# Altium integrated library Microchip Mixed Signal.IntLib: 1399 symbols (part 13 of 39)
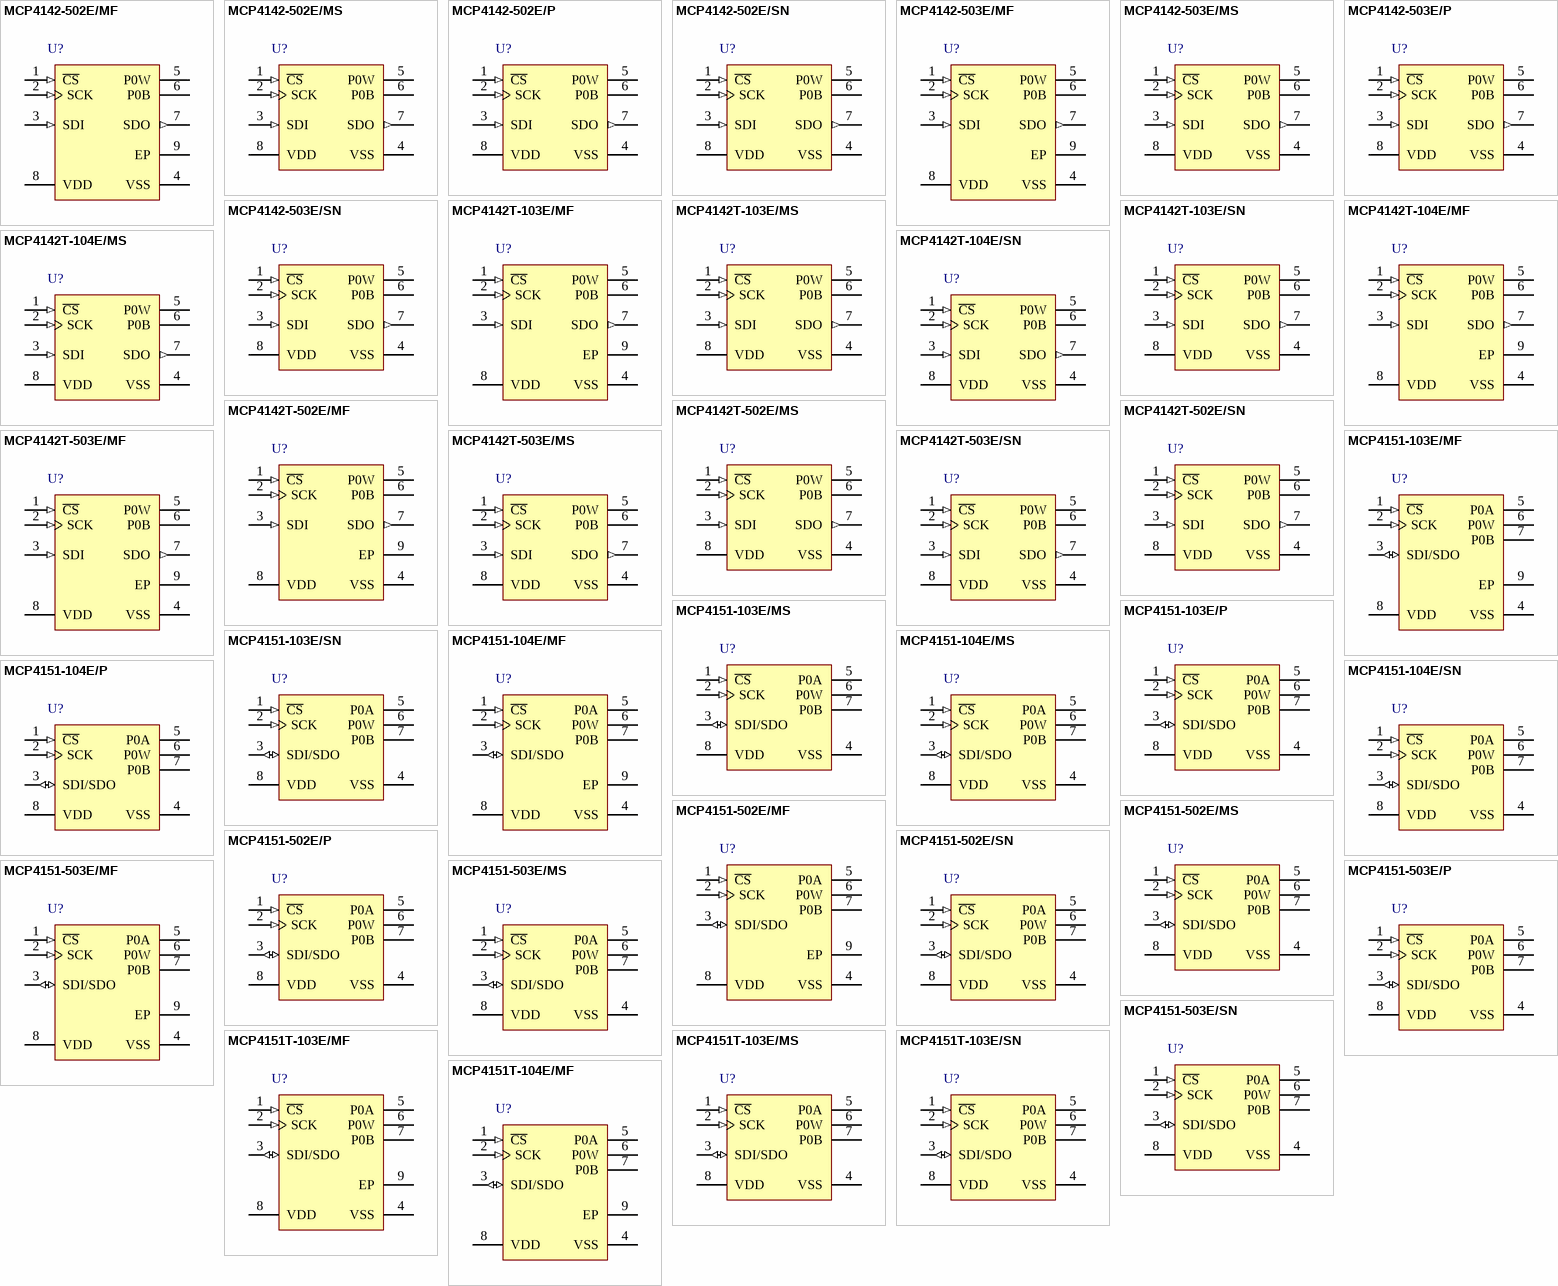
[diagram p56: symbols MCP4142-502E/MF to MCP4151T-104E/MF]

## MCP4142-503E/MS
designator U?
7/8-Bit Single/Dual SPI Digital POT with Non-Volatile Memory, 8-Pin MSOP, Extended Temperature; Manufacturer: Microchip; PartNumber: MCP4142-503E/MS; DatasheetVersion: revB, Dec-2008; PackageVersion: revBB, Aug-2009; PackageReference: MSOP-MS8; PackageDescription: 8-Lead Plastic Micro Small Outline Package (MS) [MSOP]; Supplier 1: Digi-Key; Supplier Part Number 1: MCP4142-503E/MS-ND; Supplier 2: Mouser; Supplier Part Number 2: 579-MCP4142-503E/MS; Mounting Technology: Surface Mount; ComponentLink1Description: Manufacturer URL; ComponentLink1URL: http://www.microchip.com/; ComponentLink2Description: Datasheet; ComponentLink2URL: http://ww1.microchip.com/downloads/en/DeviceDoc/22059b.pdf; ComponentLink3Description: Package Specification; ComponentLink3URL: http://www.microchip.com/stellent/groups/techpub_sg/documents/packagingspec/en012702.pdf
footprint MSOP-MS8_N (TSOP, 8-Leads, Body 3x3mm, Pitch 0.65mm, IPC Medium Density)
footprint MSOP-MS8_L (TSOP, 8-Leads, Body 3x3mm, Pitch 0.65mm, IPC High Density)
footprint MSOP-MS8_M (TSOP, 8-Leads, Body 3x3mm, Pitch 0.65mm, IPC Low Density)
pins: 1 ~{CS} (in), 2 SCK (in), 3 SDI (in), 4 VSS (power), 5 P0W, 6 P0B, 7 SDO (out), 8 VDD (power)

## MCP4142-503E/P
designator U?
7/8-Bit Single/Dual SPI Digital POT with Non-Volatile Memory, 8-Pin PDIP, Extended Temperature; Manufacturer: Microchip; PartNumber: MCP4142-503E/P; DatasheetVersion: revB, Dec-2008; PackageVersion: revBB, Aug-2009; PackageReference: PDIP300-P8; PackageDescription: 8-Lead Plastic Dual In-Line (P) - 300 mil Body [PDIP]; Supplier 1: Digi-Key; Supplier Part Number 1: MCP4142-503E/P-ND; Supplier 2: Farnell; Supplier Part Number 2: 1840821; Supplier 3: Newark; Supplier Part Number 3: 77M2666; Supplier 4: Mouser; Supplier Part Number 4: 579-MCP4142-503E/P; Mounting Technology: Through Hole; Code_JEDEC: MS-001; ComponentLink1Description: Manufacturer URL; ComponentLink1URL: http://www.microchip.com/; ComponentLink2Description: Datasheet; ComponentLink2URL: http://ww1.microchip.com/downloads/en/DeviceDoc/22059b.pdf; ComponentLink3Description: Package Specification; ComponentLink3URL: http://www.microchip.com/stellent/groups/techpub_sg/documents/packagingspec/en012702.pdf
footprint PDIP300-P8 (DIP, 8-Leads, Row Spacing 7.62mm, Pitch 2.54mm, Body 9.5x6.6mm)
pins: 1 ~{CS} (in), 2 SCK (in), 3 SDI (in), 4 VSS (power), 5 P0W, 6 P0B, 7 SDO (out), 8 VDD (power)

## MCP4142-503E/SN
designator U?
7/8-Bit Single/Dual SPI Digital POT with Non-Volatile Memory, 8-Pin SOIC 150mil, Extended Temperature; Manufacturer: Microchip; PartNumber: MCP4142-503E/SN; DatasheetVersion: revB, Dec-2008; PackageVersion: revBB, Aug-2009; PackageReference: SOIC-SN8; PackageDescription: 8-Lead Plastic Small Outline (SN) - Narrow, 3.90mm Body [SOIC]; Supplier 1: Digi-Key; Supplier Part Number 1: MCP4142-503E/SN-ND; Supplier 2: Farnell; Supplier Part Number 2: 1852030; Supplier 3: Newark; Supplier Part Number 3: 77M2667; Supplier 4: Mouser; Supplier Part Number 4: 579-MCP4142-503E/SN; Mounting Technology: Surface Mount; Code_JEDEC: MS-012; Code_IPC: SOIC127P600-8; ComponentLink1Description: Manufacturer URL; ComponentLink1URL: http://www.microchip.com/; ComponentLink2Description: Datasheet; ComponentLink2URL: http://ww1.microchip.com/downloads/en/DeviceDoc/22059b.pdf; ComponentLink3Description: Package Specification; ComponentLink3URL: http://www.microchip.com/stellent/groups/techpub_sg/documents/packagingspec/en012702.pdf
footprint SOIC-SN8_N (SOIC, 8-Leads, Body 4.9x3.8mm, Pitch 1.27mm, IPC Medium Density)
footprint SOIC-SN8_L (SOIC, 8-Leads, Body 4.9x3.8mm, Pitch 1.27mm, IPC High Density)
footprint SOIC-SN8_M (SOIC, 8-Leads, Body 4.9x3.8mm, Pitch 1.27mm, IPC Low Density)
pins: 1 ~{CS} (in), 2 SCK (in), 3 SDI (in), 4 VSS (power), 5 P0W, 6 P0B, 7 SDO (out), 8 VDD (power)

## MCP4142T-103E/MF
designator U?
7/8-Bit Single/Dual SPI Digital POT with Non-Volatile Memory, 8-Pin DFN, Extended Temperature, Tape and Reel; Manufacturer: Microchip; PartNumber: MCP4142T-103E/MF; DatasheetVersion: revB, Dec-2008; PackageVersion: revBB, Aug-2009; PackageReference: DFN-MF8; PackageDescription: 8-Lead Plastic Dual Flat, No Lead Package (MF) - 3x3x0.9mm Body [DFN]; Supplier 1: Digi-Key; Supplier Part Number 1: MCP4142T-103E/MF-ND; Supplier 2: Mouser; Supplier Part Number 2: 579-MCP4142T-103E/MF; Mounting Technology: Surface Mount; ComponentLink1Description: Manufacturer URL; ComponentLink1URL: http://www.microchip.com/; ComponentLink2Description: Datasheet; ComponentLink2URL: http://ww1.microchip.com/downloads/en/DeviceDoc/22059b.pdf; ComponentLink3Description: Package Specification; ComponentLink3URL: http://www.microchip.com/stellent/groups/techpub_sg/documents/packagingspec/en012702.pdf
footprint DFN-MF8 (SON, 8-Leads, Body 3x3mm, Pitch 0.65mm, Microchip Recommended)
pins: 1 ~{CS} (in), 2 SCK (in), 3 SDI (in), 4 VSS (power), 5 P0W, 6 P0B, 7 SDO (out), 8 VDD (power), 9 EP

## MCP4142T-103E/MS
designator U?
7/8-Bit Single/Dual SPI Digital POT with Non-Volatile Memory, 8-Pin MSOP, Extended Temperature, Tape and Reel; Manufacturer: Microchip; PartNumber: MCP4142T-103E/MS; DatasheetVersion: revB, Dec-2008; PackageVersion: revBB, Aug-2009; PackageReference: MSOP-MS8; PackageDescription: 8-Lead Plastic Micro Small Outline Package (MS) [MSOP]; Supplier 1: Digi-Key; Supplier Part Number 1: MCP4142T-103E/MS-ND; Supplier 2: Mouser; Supplier Part Number 2: 579-MCP4142T-103E/MS; Mounting Technology: Surface Mount; ComponentLink1Description: Manufacturer URL; ComponentLink1URL: http://www.microchip.com/; ComponentLink2Description: Datasheet; ComponentLink2URL: http://ww1.microchip.com/downloads/en/DeviceDoc/22059b.pdf; ComponentLink3Description: Package Specification; ComponentLink3URL: http://www.microchip.com/stellent/groups/techpub_sg/documents/packagingspec/en012702.pdf
footprint MSOP-MS8_N (TSOP, 8-Leads, Body 3x3mm, Pitch 0.65mm, IPC Medium Density)
footprint MSOP-MS8_L (TSOP, 8-Leads, Body 3x3mm, Pitch 0.65mm, IPC High Density)
footprint MSOP-MS8_M (TSOP, 8-Leads, Body 3x3mm, Pitch 0.65mm, IPC Low Density)
pins: 1 ~{CS} (in), 2 SCK (in), 3 SDI (in), 4 VSS (power), 5 P0W, 6 P0B, 7 SDO (out), 8 VDD (power)

## MCP4142T-103E/SN
designator U?
7/8-Bit Single/Dual SPI Digital POT with Non-Volatile Memory, 8-Pin SOIC 150mil, Extended Temperature, Tape and Reel; Manufacturer: Microchip; PartNumber: MCP4142T-103E/SN; DatasheetVersion: revB, Dec-2008; PackageVersion: revBB, Aug-2009; PackageReference: SOIC-SN8; PackageDescription: 8-Lead Plastic Small Outline (SN) - Narrow, 3.90mm Body [SOIC]; Supplier 1: Digi-Key; Supplier Part Number 1: MCP4142T-103E/SN-ND; Supplier 2: Mouser; Supplier Part Number 2: 579-MCP4142T-103E/SN; Mounting Technology: Surface Mount; Code_JEDEC: MS-012; Code_IPC: SOIC127P600-8; ComponentLink1Description: Manufacturer URL; ComponentLink1URL: http://www.microchip.com/; ComponentLink2Description: Datasheet; ComponentLink2URL: http://ww1.microchip.com/downloads/en/DeviceDoc/22059b.pdf; ComponentLink3Description: Package Specification; ComponentLink3URL: http://www.microchip.com/stellent/groups/techpub_sg/documents/packagingspec/en012702.pdf
footprint SOIC-SN8_N (SOIC, 8-Leads, Body 4.9x3.8mm, Pitch 1.27mm, IPC Medium Density)
footprint SOIC-SN8_L (SOIC, 8-Leads, Body 4.9x3.8mm, Pitch 1.27mm, IPC High Density)
footprint SOIC-SN8_M (SOIC, 8-Leads, Body 4.9x3.8mm, Pitch 1.27mm, IPC Low Density)
pins: 1 ~{CS} (in), 2 SCK (in), 3 SDI (in), 4 VSS (power), 5 P0W, 6 P0B, 7 SDO (out), 8 VDD (power)

## MCP4142T-104E/MF
designator U?
7/8-Bit Single/Dual SPI Digital POT with Non-Volatile Memory, 8-Pin DFN, Extended Temperature, Tape and Reel; Manufacturer: Microchip; PartNumber: MCP4142T-104E/MF; DatasheetVersion: revB, Dec-2008; PackageVersion: revBB, Aug-2009; PackageReference: DFN-MF8; PackageDescription: 8-Lead Plastic Dual Flat, No Lead Package (MF) - 3x3x0.9mm Body [DFN]; Supplier 1: Digi-Key; Supplier Part Number 1: MCP4142T-104E/MF-ND; Supplier 2: Mouser; Supplier Part Number 2: 579-MCP4142T-104E/MF; Mounting Technology: Surface Mount; ComponentLink1Description: Manufacturer URL; ComponentLink1URL: http://www.microchip.com/; ComponentLink2Description: Datasheet; ComponentLink2URL: http://ww1.microchip.com/downloads/en/DeviceDoc/22059b.pdf; ComponentLink3Description: Package Specification; ComponentLink3URL: http://www.microchip.com/stellent/groups/techpub_sg/documents/packagingspec/en012702.pdf
footprint DFN-MF8 (SON, 8-Leads, Body 3x3mm, Pitch 0.65mm, Microchip Recommended)
pins: 1 ~{CS} (in), 2 SCK (in), 3 SDI (in), 4 VSS (power), 5 P0W, 6 P0B, 7 SDO (out), 8 VDD (power), 9 EP

## MCP4142T-104E/MS
designator U?
7/8-Bit Single/Dual SPI Digital POT with Non-Volatile Memory, 8-Pin MSOP, Extended Temperature, Tape and Reel; Manufacturer: Microchip; PartNumber: MCP4142T-104E/MS; DatasheetVersion: revB, Dec-2008; PackageVersion: revBB, Aug-2009; PackageReference: MSOP-MS8; PackageDescription: 8-Lead Plastic Micro Small Outline Package (MS) [MSOP]; Supplier 1: Digi-Key; Supplier Part Number 1: MCP4142T-104E/MS-ND; Supplier 2: Mouser; Supplier Part Number 2: 579-MCP4142T-104E/MS; Mounting Technology: Surface Mount; ComponentLink1Description: Manufacturer URL; ComponentLink1URL: http://www.microchip.com/; ComponentLink2Description: Datasheet; ComponentLink2URL: http://ww1.microchip.com/downloads/en/DeviceDoc/22059b.pdf; ComponentLink3Description: Package Specification; ComponentLink3URL: http://www.microchip.com/stellent/groups/techpub_sg/documents/packagingspec/en012702.pdf
footprint MSOP-MS8_N (TSOP, 8-Leads, Body 3x3mm, Pitch 0.65mm, IPC Medium Density)
footprint MSOP-MS8_L (TSOP, 8-Leads, Body 3x3mm, Pitch 0.65mm, IPC High Density)
footprint MSOP-MS8_M (TSOP, 8-Leads, Body 3x3mm, Pitch 0.65mm, IPC Low Density)
pins: 1 ~{CS} (in), 2 SCK (in), 3 SDI (in), 4 VSS (power), 5 P0W, 6 P0B, 7 SDO (out), 8 VDD (power)

## MCP4142T-104E/SN
designator U?
7/8-Bit Single/Dual SPI Digital POT with Non-Volatile Memory, 8-Pin SOIC 150mil, Extended Temperature, Tape and Reel; Manufacturer: Microchip; PartNumber: MCP4142T-104E/SN; DatasheetVersion: revB, Dec-2008; PackageVersion: revBB, Aug-2009; PackageReference: SOIC-SN8; PackageDescription: 8-Lead Plastic Small Outline (SN) - Narrow, 3.90mm Body [SOIC]; Supplier 1: Digi-Key; Supplier Part Number 1: MCP4142T-104E/SN-ND; Supplier 2: Mouser; Supplier Part Number 2: 579-MCP4142T-104E/SN; Mounting Technology: Surface Mount; Code_JEDEC: MS-012; Code_IPC: SOIC127P600-8; ComponentLink1Description: Manufacturer URL; ComponentLink1URL: http://www.microchip.com/; ComponentLink2Description: Datasheet; ComponentLink2URL: http://ww1.microchip.com/downloads/en/DeviceDoc/22059b.pdf; ComponentLink3Description: Package Specification; ComponentLink3URL: http://www.microchip.com/stellent/groups/techpub_sg/documents/packagingspec/en012702.pdf
footprint SOIC-SN8_N (SOIC, 8-Leads, Body 4.9x3.8mm, Pitch 1.27mm, IPC Medium Density)
footprint SOIC-SN8_L (SOIC, 8-Leads, Body 4.9x3.8mm, Pitch 1.27mm, IPC High Density)
footprint SOIC-SN8_M (SOIC, 8-Leads, Body 4.9x3.8mm, Pitch 1.27mm, IPC Low Density)
pins: 1 ~{CS} (in), 2 SCK (in), 3 SDI (in), 4 VSS (power), 5 P0W, 6 P0B, 7 SDO (out), 8 VDD (power)

## MCP4142T-502E/MF
designator U?
7/8-Bit Single/Dual SPI Digital POT with Non-Volatile Memory, 8-Pin DFN, Extended Temperature, Tape and Reel; Manufacturer: Microchip; PartNumber: MCP4142T-502E/MF; DatasheetVersion: revB, Dec-2008; PackageVersion: revBB, Aug-2009; PackageReference: DFN-MF8; PackageDescription: 8-Lead Plastic Dual Flat, No Lead Package (MF) - 3x3x0.9mm Body [DFN]; Supplier 1: Digi-Key; Supplier Part Number 1: MCP4142T-502E/MF-ND; Supplier 2: Mouser; Supplier Part Number 2: 579-MCP4142T-502E/MF; Mounting Technology: Surface Mount; ComponentLink1Description: Manufacturer URL; ComponentLink1URL: http://www.microchip.com/; ComponentLink2Description: Datasheet; ComponentLink2URL: http://ww1.microchip.com/downloads/en/DeviceDoc/22059b.pdf; ComponentLink3Description: Package Specification; ComponentLink3URL: http://www.microchip.com/stellent/groups/techpub_sg/documents/packagingspec/en012702.pdf
footprint DFN-MF8 (SON, 8-Leads, Body 3x3mm, Pitch 0.65mm, Microchip Recommended)
pins: 1 ~{CS} (in), 2 SCK (in), 3 SDI (in), 4 VSS (power), 5 P0W, 6 P0B, 7 SDO (out), 8 VDD (power), 9 EP

## MCP4142T-502E/MS
designator U?
7/8-Bit Single/Dual SPI Digital POT with Non-Volatile Memory, 8-Pin MSOP, Extended Temperature, Tape and Reel; Manufacturer: Microchip; PartNumber: MCP4142T-502E/MS; DatasheetVersion: revB, Dec-2008; PackageVersion: revBB, Aug-2009; PackageReference: MSOP-MS8; PackageDescription: 8-Lead Plastic Micro Small Outline Package (MS) [MSOP]; Supplier 1: Digi-Key; Supplier Part Number 1: MCP4142T-502E/MS-ND; Supplier 2: Mouser; Supplier Part Number 2: 579-MCP4142T-502E/MS; Mounting Technology: Surface Mount; ComponentLink1Description: Manufacturer URL; ComponentLink1URL: http://www.microchip.com/; ComponentLink2Description: Datasheet; ComponentLink2URL: http://ww1.microchip.com/downloads/en/DeviceDoc/22059b.pdf; ComponentLink3Description: Package Specification; ComponentLink3URL: http://www.microchip.com/stellent/groups/techpub_sg/documents/packagingspec/en012702.pdf
footprint MSOP-MS8_N (TSOP, 8-Leads, Body 3x3mm, Pitch 0.65mm, IPC Medium Density)
footprint MSOP-MS8_L (TSOP, 8-Leads, Body 3x3mm, Pitch 0.65mm, IPC High Density)
footprint MSOP-MS8_M (TSOP, 8-Leads, Body 3x3mm, Pitch 0.65mm, IPC Low Density)
pins: 1 ~{CS} (in), 2 SCK (in), 3 SDI (in), 4 VSS (power), 5 P0W, 6 P0B, 7 SDO (out), 8 VDD (power)

## MCP4142T-502E/SN
designator U?
7/8-Bit Single/Dual SPI Digital POT with Non-Volatile Memory, 8-Pin SOIC 150mil, Extended Temperature, Tape and Reel; Manufacturer: Microchip; PartNumber: MCP4142T-502E/SN; DatasheetVersion: revB, Dec-2008; PackageVersion: revBB, Aug-2009; PackageReference: SOIC-SN8; PackageDescription: 8-Lead Plastic Small Outline (SN) - Narrow, 3.90mm Body [SOIC]; Supplier 1: Digi-Key; Supplier Part Number 1: MCP4142T-502E/SN-ND; Supplier 2: Mouser; Supplier Part Number 2: 579-MCP4142T-502E/SN; Mounting Technology: Surface Mount; Code_JEDEC: MS-012; Code_IPC: SOIC127P600-8; ComponentLink1Description: Manufacturer URL; ComponentLink1URL: http://www.microchip.com/; ComponentLink2Description: Datasheet; ComponentLink2URL: http://ww1.microchip.com/downloads/en/DeviceDoc/22059b.pdf; ComponentLink3Description: Package Specification; ComponentLink3URL: http://www.microchip.com/stellent/groups/techpub_sg/documents/packagingspec/en012702.pdf
footprint SOIC-SN8_N (SOIC, 8-Leads, Body 4.9x3.8mm, Pitch 1.27mm, IPC Medium Density)
footprint SOIC-SN8_L (SOIC, 8-Leads, Body 4.9x3.8mm, Pitch 1.27mm, IPC High Density)
footprint SOIC-SN8_M (SOIC, 8-Leads, Body 4.9x3.8mm, Pitch 1.27mm, IPC Low Density)
pins: 1 ~{CS} (in), 2 SCK (in), 3 SDI (in), 4 VSS (power), 5 P0W, 6 P0B, 7 SDO (out), 8 VDD (power)

## MCP4142T-503E/MF
designator U?
7/8-Bit Single/Dual SPI Digital POT with Non-Volatile Memory, 8-Pin DFN, Extended Temperature, Tape and Reel; Manufacturer: Microchip; PartNumber: MCP4142T-503E/MF; DatasheetVersion: revB, Dec-2008; PackageVersion: revBB, Aug-2009; PackageReference: DFN-MF8; PackageDescription: 8-Lead Plastic Dual Flat, No Lead Package (MF) - 3x3x0.9mm Body [DFN]; Supplier 1: Digi-Key; Supplier Part Number 1: MCP4142T-503E/MF-ND; Supplier 2: Mouser; Supplier Part Number 2: 579-MCP4142T-503E/MF; Mounting Technology: Surface Mount; ComponentLink1Description: Manufacturer URL; ComponentLink1URL: http://www.microchip.com/; ComponentLink2Description: Datasheet; ComponentLink2URL: http://ww1.microchip.com/downloads/en/DeviceDoc/22059b.pdf; ComponentLink3Description: Package Specification; ComponentLink3URL: http://www.microchip.com/stellent/groups/techpub_sg/documents/packagingspec/en012702.pdf
footprint DFN-MF8 (SON, 8-Leads, Body 3x3mm, Pitch 0.65mm, Microchip Recommended)
pins: 1 ~{CS} (in), 2 SCK (in), 3 SDI (in), 4 VSS (power), 5 P0W, 6 P0B, 7 SDO (out), 8 VDD (power), 9 EP

## MCP4142T-503E/MS
designator U?
7/8-Bit Single/Dual SPI Digital POT with Non-Volatile Memory, 8-Pin MSOP, Extended Temperature, Tape and Reel; Manufacturer: Microchip; PartNumber: MCP4142T-503E/MS; DatasheetVersion: revB, Dec-2008; PackageVersion: revBB, Aug-2009; PackageReference: MSOP-MS8; PackageDescription: 8-Lead Plastic Micro Small Outline Package (MS) [MSOP]; Supplier 1: Digi-Key; Supplier Part Number 1: MCP4142T-503E/MS-ND; Supplier 2: Mouser; Supplier Part Number 2: 579-MCP4142T-503E/MS; Mounting Technology: Surface Mount; ComponentLink1Description: Manufacturer URL; ComponentLink1URL: http://www.microchip.com/; ComponentLink2Description: Datasheet; ComponentLink2URL: http://ww1.microchip.com/downloads/en/DeviceDoc/22059b.pdf; ComponentLink3Description: Package Specification; ComponentLink3URL: http://www.microchip.com/stellent/groups/techpub_sg/documents/packagingspec/en012702.pdf
footprint MSOP-MS8_N (TSOP, 8-Leads, Body 3x3mm, Pitch 0.65mm, IPC Medium Density)
footprint MSOP-MS8_L (TSOP, 8-Leads, Body 3x3mm, Pitch 0.65mm, IPC High Density)
footprint MSOP-MS8_M (TSOP, 8-Leads, Body 3x3mm, Pitch 0.65mm, IPC Low Density)
pins: 1 ~{CS} (in), 2 SCK (in), 3 SDI (in), 4 VSS (power), 5 P0W, 6 P0B, 7 SDO (out), 8 VDD (power)

## MCP4142T-503E/SN
designator U?
7/8-Bit Single/Dual SPI Digital POT with Non-Volatile Memory, 8-Pin SOIC 150mil, Extended Temperature, Tape and Reel; Manufacturer: Microchip; PartNumber: MCP4142T-503E/SN; DatasheetVersion: revB, Dec-2008; PackageVersion: revBB, Aug-2009; PackageReference: SOIC-SN8; PackageDescription: 8-Lead Plastic Small Outline (SN) - Narrow, 3.90mm Body [SOIC]; Supplier 1: Digi-Key; Supplier Part Number 1: MCP4142T-503E/SN-ND; Supplier 2: Mouser; Supplier Part Number 2: 579-MCP4142T-503E/SN; Mounting Technology: Surface Mount; Code_JEDEC: MS-012; Code_IPC: SOIC127P600-8; ComponentLink1Description: Manufacturer URL; ComponentLink1URL: http://www.microchip.com/; ComponentLink2Description: Datasheet; ComponentLink2URL: http://ww1.microchip.com/downloads/en/DeviceDoc/22059b.pdf; ComponentLink3Description: Package Specification; ComponentLink3URL: http://www.microchip.com/stellent/groups/techpub_sg/documents/packagingspec/en012702.pdf
footprint SOIC-SN8_N (SOIC, 8-Leads, Body 4.9x3.8mm, Pitch 1.27mm, IPC Medium Density)
footprint SOIC-SN8_L (SOIC, 8-Leads, Body 4.9x3.8mm, Pitch 1.27mm, IPC High Density)
footprint SOIC-SN8_M (SOIC, 8-Leads, Body 4.9x3.8mm, Pitch 1.27mm, IPC Low Density)
pins: 1 ~{CS} (in), 2 SCK (in), 3 SDI (in), 4 VSS (power), 5 P0W, 6 P0B, 7 SDO (out), 8 VDD (power)

## MCP4151-103E/MF
designator U?
7/8-Bit Single/Dual SPI Digital POT with Volatile Memory, 8-Pin DFN, Extended Temperature; Manufacturer: Microchip; PartNumber: MCP4151-103E/MF; DatasheetVersion: revB, Dec-2008; PackageVersion: revBB, Aug-2009; PackageReference: DFN-MF8; PackageDescription: 8-Lead Plastic Dual Flat, No Lead Package (MF) - 3x3x0.9mm Body [DFN]; Supplier 1: Digi-Key; Supplier Part Number 1: MCP4151-103E/MF-ND; Supplier 2: Newark; Supplier Part Number 2: 77M2680; Supplier 3: Mouser; Supplier Part Number 3: 579-MCP4151-103E/MF; Mounting Technology: Surface Mount; ComponentLink1Description: Manufacturer URL; ComponentLink1URL: http://www.microchip.com/; ComponentLink2Description: Datasheet; ComponentLink2URL: http://ww1.microchip.com/downloads/en/DeviceDoc/22060b.pdf; ComponentLink3Description: Package Specification; ComponentLink3URL: http://www.microchip.com/stellent/groups/techpub_sg/documents/packagingspec/en012702.pdf
footprint DFN-MF8 (SON, 8-Leads, Body 3x3mm, Pitch 0.65mm, Microchip Recommended)
pins: 1 ~{CS} (in), 2 SCK (in), 3 SDI/SDO (io), 4 VSS (power), 5 P0A, 6 P0W, 7 P0B, 8 VDD (power), 9 EP

## MCP4151-103E/MS
designator U?
7/8-Bit Single/Dual SPI Digital POT with Volatile Memory, 8-Pin MSOP, Extended Temperature; Manufacturer: Microchip; PartNumber: MCP4151-103E/MS; DatasheetVersion: revB, Dec-2008; PackageVersion: revBB, Aug-2009; PackageReference: MSOP-MS8; PackageDescription: 8-Lead Plastic Micro Small Outline Package (MS) [MSOP]; Supplier 1: Digi-Key; Supplier Part Number 1: MCP4151-103E/MS-ND; Supplier 2: Newark; Supplier Part Number 2: 77M2681; Supplier 3: Mouser; Supplier Part Number 3: 579-MCP4151-103E/MS; Mounting Technology: Surface Mount; ComponentLink1Description: Manufacturer URL; ComponentLink1URL: http://www.microchip.com/; ComponentLink2Description: Datasheet; ComponentLink2URL: http://ww1.microchip.com/downloads/en/DeviceDoc/22060b.pdf; ComponentLink3Description: Package Specification; ComponentLink3URL: http://www.microchip.com/stellent/groups/techpub_sg/documents/packagingspec/en012702.pdf
footprint MSOP-MS8_N (TSOP, 8-Leads, Body 3x3mm, Pitch 0.65mm, IPC Medium Density)
footprint MSOP-MS8_L (TSOP, 8-Leads, Body 3x3mm, Pitch 0.65mm, IPC High Density)
footprint MSOP-MS8_M (TSOP, 8-Leads, Body 3x3mm, Pitch 0.65mm, IPC Low Density)
pins: 1 ~{CS} (in), 2 SCK (in), 3 SDI/SDO (io), 4 VSS (power), 5 P0A, 6 P0W, 7 P0B, 8 VDD (power)

## MCP4151-103E/P
designator U?
7/8-Bit Single/Dual SPI Digital POT with Volatile Memory, 8-Pin PDIP, Extended Temperature; Manufacturer: Microchip; PartNumber: MCP4151-103E/P; DatasheetVersion: revB, Dec-2008; PackageVersion: revBB, Aug-2009; PackageReference: PDIP300-P8; PackageDescription: 8-Lead Plastic Dual In-Line (P) - 300 mil Body [PDIP]; Supplier 1: Digi-Key; Supplier Part Number 1: MCP4151-103E/P-ND; Supplier 2: Farnell; Supplier Part Number 2: 1840806; Supplier 3: Newark; Supplier Part Number 3: 77M2682; Supplier 4: Mouser; Supplier Part Number 4: 579-MCP4151-103E/P; Mounting Technology: Through Hole; Code_JEDEC: MS-001; ComponentLink1Description: Manufacturer URL; ComponentLink1URL: http://www.microchip.com/; ComponentLink2Description: Datasheet; ComponentLink2URL: http://ww1.microchip.com/downloads/en/DeviceDoc/22060b.pdf; ComponentLink3Description: Package Specification; ComponentLink3URL: http://www.microchip.com/stellent/groups/techpub_sg/documents/packagingspec/en012702.pdf
footprint PDIP300-P8 (DIP, 8-Leads, Row Spacing 7.62mm, Pitch 2.54mm, Body 9.5x6.6mm)
pins: 1 ~{CS} (in), 2 SCK (in), 3 SDI/SDO (io), 4 VSS (power), 5 P0A, 6 P0W, 7 P0B, 8 VDD (power)

## MCP4151-103E/SN
designator U?
7/8-Bit Single/Dual SPI Digital POT with Volatile Memory, 8-Pin SOIC 150mil, Extended Temperature; Manufacturer: Microchip; PartNumber: MCP4151-103E/SN; DatasheetVersion: revB, Dec-2008; PackageVersion: revBB, Aug-2009; PackageReference: SOIC-SN8; PackageDescription: 8-Lead Plastic Small Outline (SN) - Narrow, 3.90mm Body [SOIC]; Supplier 1: Digi-Key; Supplier Part Number 1: MCP4151-103E/SN-ND; Supplier 2: Farnell; Supplier Part Number 2: 1840810; Supplier 3: Newark; Supplier Part Number 3: 77M2683; Supplier 4: Mouser; Supplier Part Number 4: 579-MCP4151-103E/SN; Mounting Technology: Surface Mount; Code_JEDEC: MS-012; Code_IPC: SOIC127P600-8; ComponentLink1Description: Manufacturer URL; ComponentLink1URL: http://www.microchip.com/; ComponentLink2Description: Datasheet; ComponentLink2URL: http://ww1.microchip.com/downloads/en/DeviceDoc/22060b.pdf; ComponentLink3Description: Package Specification; ComponentLink3URL: http://www.microchip.com/stellent/groups/techpub_sg/documents/packagingspec/en012702.pdf
footprint SOIC-SN8_N (SOIC, 8-Leads, Body 4.9x3.8mm, Pitch 1.27mm, IPC Medium Density)
footprint SOIC-SN8_L (SOIC, 8-Leads, Body 4.9x3.8mm, Pitch 1.27mm, IPC High Density)
footprint SOIC-SN8_M (SOIC, 8-Leads, Body 4.9x3.8mm, Pitch 1.27mm, IPC Low Density)
pins: 1 ~{CS} (in), 2 SCK (in), 3 SDI/SDO (io), 4 VSS (power), 5 P0A, 6 P0W, 7 P0B, 8 VDD (power)

## MCP4151-104E/MF
designator U?
7/8-Bit Single/Dual SPI Digital POT with Volatile Memory, 8-Pin DFN, Extended Temperature; Manufacturer: Microchip; PartNumber: MCP4151-104E/MF; DatasheetVersion: revB, Dec-2008; PackageVersion: revBB, Aug-2009; PackageReference: DFN-MF8; PackageDescription: 8-Lead Plastic Dual Flat, No Lead Package (MF) - 3x3x0.9mm Body [DFN]; Supplier 1: Digi-Key; Supplier Part Number 1: MCP4151-104E/MF-ND; Supplier 2: Mouser; Supplier Part Number 2: 579-MCP4151-104E/MF; Mounting Technology: Surface Mount; ComponentLink1Description: Manufacturer URL; ComponentLink1URL: http://www.microchip.com/; ComponentLink2Description: Datasheet; ComponentLink2URL: http://ww1.microchip.com/downloads/en/DeviceDoc/22060b.pdf; ComponentLink3Description: Package Specification; ComponentLink3URL: http://www.microchip.com/stellent/groups/techpub_sg/documents/packagingspec/en012702.pdf
footprint DFN-MF8 (SON, 8-Leads, Body 3x3mm, Pitch 0.65mm, Microchip Recommended)
pins: 1 ~{CS} (in), 2 SCK (in), 3 SDI/SDO (io), 4 VSS (power), 5 P0A, 6 P0W, 7 P0B, 8 VDD (power), 9 EP

## MCP4151-104E/MS
designator U?
7/8-Bit Single/Dual SPI Digital POT with Volatile Memory, 8-Pin MSOP, Extended Temperature; Manufacturer: Microchip; PartNumber: MCP4151-104E/MS; DatasheetVersion: revB, Dec-2008; PackageVersion: revBB, Aug-2009; PackageReference: MSOP-MS8; PackageDescription: 8-Lead Plastic Micro Small Outline Package (MS) [MSOP]; Supplier 1: Digi-Key; Supplier Part Number 1: MCP4151-104E/MS-ND; Supplier 2: Mouser; Supplier Part Number 2: 579-MCP4151-104E/MS; Mounting Technology: Surface Mount; ComponentLink1Description: Manufacturer URL; ComponentLink1URL: http://www.microchip.com/; ComponentLink2Description: Datasheet; ComponentLink2URL: http://ww1.microchip.com/downloads/en/DeviceDoc/22060b.pdf; ComponentLink3Description: Package Specification; ComponentLink3URL: http://www.microchip.com/stellent/groups/techpub_sg/documents/packagingspec/en012702.pdf
footprint MSOP-MS8_N (TSOP, 8-Leads, Body 3x3mm, Pitch 0.65mm, IPC Medium Density)
footprint MSOP-MS8_L (TSOP, 8-Leads, Body 3x3mm, Pitch 0.65mm, IPC High Density)
footprint MSOP-MS8_M (TSOP, 8-Leads, Body 3x3mm, Pitch 0.65mm, IPC Low Density)
pins: 1 ~{CS} (in), 2 SCK (in), 3 SDI/SDO (io), 4 VSS (power), 5 P0A, 6 P0W, 7 P0B, 8 VDD (power)

## MCP4151-104E/P
designator U?
7/8-Bit Single/Dual SPI Digital POT with Volatile Memory, 8-Pin PDIP, Extended Temperature; Manufacturer: Microchip; PartNumber: MCP4151-104E/P; DatasheetVersion: revB, Dec-2008; PackageVersion: revBB, Aug-2009; PackageReference: PDIP300-P8; PackageDescription: 8-Lead Plastic Dual In-Line (P) - 300 mil Body [PDIP]; Supplier 1: Digi-Key; Supplier Part Number 1: MCP4151-104E/P-ND; Supplier 2: Farnell; Supplier Part Number 2: 1840795; Supplier 3: Newark; Supplier Part Number 3: 77M2686; Supplier 4: Mouser; Supplier Part Number 4: 579-MCP4151-104E/P; Mounting Technology: Through Hole; Code_JEDEC: MS-001; ComponentLink1Description: Manufacturer URL; ComponentLink1URL: http://www.microchip.com/; ComponentLink2Description: Datasheet; ComponentLink2URL: http://ww1.microchip.com/downloads/en/DeviceDoc/22060b.pdf; ComponentLink3Description: Package Specification; ComponentLink3URL: http://www.microchip.com/stellent/groups/techpub_sg/documents/packagingspec/en012702.pdf
footprint PDIP300-P8 (DIP, 8-Leads, Row Spacing 7.62mm, Pitch 2.54mm, Body 9.5x6.6mm)
pins: 1 ~{CS} (in), 2 SCK (in), 3 SDI/SDO (io), 4 VSS (power), 5 P0A, 6 P0W, 7 P0B, 8 VDD (power)

## MCP4151-104E/SN
designator U?
7/8-Bit Single/Dual SPI Digital POT with Volatile Memory, 8-Pin SOIC 150mil, Extended Temperature; Manufacturer: Microchip; PartNumber: MCP4151-104E/SN; DatasheetVersion: revB, Dec-2008; PackageVersion: revBB, Aug-2009; PackageReference: SOIC-SN8; PackageDescription: 8-Lead Plastic Small Outline (SN) - Narrow, 3.90mm Body [SOIC]; Supplier 1: Digi-Key; Supplier Part Number 1: MCP4151-104E/SN-ND; Supplier 2: Farnell; Supplier Part Number 2: 1852031; Supplier 3: Newark; Supplier Part Number 3: 77M2687; Supplier 4: Mouser; Supplier Part Number 4: 579-MCP4151-104E/SN; Mounting Technology: Surface Mount; Code_JEDEC: MS-012; Code_IPC: SOIC127P600-8; ComponentLink1Description: Manufacturer URL; ComponentLink1URL: http://www.microchip.com/; ComponentLink2Description: Datasheet; ComponentLink2URL: http://ww1.microchip.com/downloads/en/DeviceDoc/22060b.pdf; ComponentLink3Description: Package Specification; ComponentLink3URL: http://www.microchip.com/stellent/groups/techpub_sg/documents/packagingspec/en012702.pdf
footprint SOIC-SN8_N (SOIC, 8-Leads, Body 4.9x3.8mm, Pitch 1.27mm, IPC Medium Density)
footprint SOIC-SN8_L (SOIC, 8-Leads, Body 4.9x3.8mm, Pitch 1.27mm, IPC High Density)
footprint SOIC-SN8_M (SOIC, 8-Leads, Body 4.9x3.8mm, Pitch 1.27mm, IPC Low Density)
pins: 1 ~{CS} (in), 2 SCK (in), 3 SDI/SDO (io), 4 VSS (power), 5 P0A, 6 P0W, 7 P0B, 8 VDD (power)

## MCP4151-502E/MF
designator U?
7/8-Bit Single/Dual SPI Digital POT with Volatile Memory, 8-Pin DFN, Extended Temperature; Manufacturer: Microchip; PartNumber: MCP4151-502E/MF; DatasheetVersion: revB, Dec-2008; PackageVersion: revBB, Aug-2009; PackageReference: DFN-MF8; PackageDescription: 8-Lead Plastic Dual Flat, No Lead Package (MF) - 3x3x0.9mm Body [DFN]; Supplier 1: Digi-Key; Supplier Part Number 1: MCP4151-502E/MF-ND; Supplier 2: Mouser; Supplier Part Number 2: 579-MCP4151-502E/MF; Mounting Technology: Surface Mount; ComponentLink1Description: Manufacturer URL; ComponentLink1URL: http://www.microchip.com/; ComponentLink2Description: Datasheet; ComponentLink2URL: http://ww1.microchip.com/downloads/en/DeviceDoc/22060b.pdf; ComponentLink3Description: Package Specification; ComponentLink3URL: http://www.microchip.com/stellent/groups/techpub_sg/documents/packagingspec/en012702.pdf
footprint DFN-MF8 (SON, 8-Leads, Body 3x3mm, Pitch 0.65mm, Microchip Recommended)
pins: 1 ~{CS} (in), 2 SCK (in), 3 SDI/SDO (io), 4 VSS (power), 5 P0A, 6 P0W, 7 P0B, 8 VDD (power), 9 EP

## MCP4151-502E/MS
designator U?
7/8-Bit Single/Dual SPI Digital POT with Volatile Memory, 8-Pin MSOP, Extended Temperature; Manufacturer: Microchip; PartNumber: MCP4151-502E/MS; DatasheetVersion: revB, Dec-2008; PackageVersion: revBB, Aug-2009; PackageReference: MSOP-MS8; PackageDescription: 8-Lead Plastic Micro Small Outline Package (MS) [MSOP]; Supplier 1: Digi-Key; Supplier Part Number 1: MCP4151-502E/MS-ND; Supplier 2: Mouser; Supplier Part Number 2: 579-MCP4151-502E/MS; Mounting Technology: Surface Mount; ComponentLink1Description: Manufacturer URL; ComponentLink1URL: http://www.microchip.com/; ComponentLink2Description: Datasheet; ComponentLink2URL: http://ww1.microchip.com/downloads/en/DeviceDoc/22060b.pdf; ComponentLink3Description: Package Specification; ComponentLink3URL: http://www.microchip.com/stellent/groups/techpub_sg/documents/packagingspec/en012702.pdf
footprint MSOP-MS8_N (TSOP, 8-Leads, Body 3x3mm, Pitch 0.65mm, IPC Medium Density)
footprint MSOP-MS8_L (TSOP, 8-Leads, Body 3x3mm, Pitch 0.65mm, IPC High Density)
footprint MSOP-MS8_M (TSOP, 8-Leads, Body 3x3mm, Pitch 0.65mm, IPC Low Density)
pins: 1 ~{CS} (in), 2 SCK (in), 3 SDI/SDO (io), 4 VSS (power), 5 P0A, 6 P0W, 7 P0B, 8 VDD (power)

## MCP4151-502E/P
designator U?
7/8-Bit Single/Dual SPI Digital POT with Volatile Memory, 8-Pin PDIP, Extended Temperature; Manufacturer: Microchip; PartNumber: MCP4151-502E/P; DatasheetVersion: revB, Dec-2008; PackageVersion: revBB, Aug-2009; PackageReference: PDIP300-P8; PackageDescription: 8-Lead Plastic Dual In-Line (P) - 300 mil Body [PDIP]; Supplier 1: Digi-Key; Supplier Part Number 1: MCP4151-502E/P-ND; Supplier 2: Farnell; Supplier Part Number 2: 1840832; Supplier 3: Newark; Supplier Part Number 3: 77M2690; Supplier 4: Mouser; Supplier Part Number 4: 579-MCP4151-502E/P; Mounting Technology: Through Hole; Code_JEDEC: MS-001; ComponentLink1Description: Manufacturer URL; ComponentLink1URL: http://www.microchip.com/; ComponentLink2Description: Datasheet; ComponentLink2URL: http://ww1.microchip.com/downloads/en/DeviceDoc/22060b.pdf; ComponentLink3Description: Package Specification; ComponentLink3URL: http://www.microchip.com/stellent/groups/techpub_sg/documents/packagingspec/en012702.pdf
footprint PDIP300-P8 (DIP, 8-Leads, Row Spacing 7.62mm, Pitch 2.54mm, Body 9.5x6.6mm)
pins: 1 ~{CS} (in), 2 SCK (in), 3 SDI/SDO (io), 4 VSS (power), 5 P0A, 6 P0W, 7 P0B, 8 VDD (power)

## MCP4151-502E/SN
designator U?
7/8-Bit Single/Dual SPI Digital POT with Volatile Memory, 8-Pin SOIC 150mil, Extended Temperature; Manufacturer: Microchip; PartNumber: MCP4151-502E/SN; DatasheetVersion: revB, Dec-2008; PackageVersion: revBB, Aug-2009; PackageReference: SOIC-SN8; PackageDescription: 8-Lead Plastic Small Outline (SN) - Narrow, 3.90mm Body [SOIC]; Supplier 1: Digi-Key; Supplier Part Number 1: MCP4151-502E/SN-ND; Supplier 2: Farnell; Supplier Part Number 2: 1840838; Supplier 3: Newark; Supplier Part Number 3: 77M2691; Supplier 4: Mouser; Supplier Part Number 4: 579-MCP4151-502E/SN; Mounting Technology: Surface Mount; Code_JEDEC: MS-012; Code_IPC: SOIC127P600-8; ComponentLink1Description: Manufacturer URL; ComponentLink1URL: http://www.microchip.com/; ComponentLink2Description: Datasheet; ComponentLink2URL: http://ww1.microchip.com/downloads/en/DeviceDoc/22060b.pdf; ComponentLink3Description: Package Specification; ComponentLink3URL: http://www.microchip.com/stellent/groups/techpub_sg/documents/packagingspec/en012702.pdf
footprint SOIC-SN8_N (SOIC, 8-Leads, Body 4.9x3.8mm, Pitch 1.27mm, IPC Medium Density)
footprint SOIC-SN8_L (SOIC, 8-Leads, Body 4.9x3.8mm, Pitch 1.27mm, IPC High Density)
footprint SOIC-SN8_M (SOIC, 8-Leads, Body 4.9x3.8mm, Pitch 1.27mm, IPC Low Density)
pins: 1 ~{CS} (in), 2 SCK (in), 3 SDI/SDO (io), 4 VSS (power), 5 P0A, 6 P0W, 7 P0B, 8 VDD (power)

## MCP4151-503E/MF
designator U?
7/8-Bit Single/Dual SPI Digital POT with Volatile Memory, 8-Pin DFN, Extended Temperature; Manufacturer: Microchip; PartNumber: MCP4151-503E/MF; DatasheetVersion: revB, Dec-2008; PackageVersion: revBB, Aug-2009; PackageReference: DFN-MF8; PackageDescription: 8-Lead Plastic Dual Flat, No Lead Package (MF) - 3x3x0.9mm Body [DFN]; Supplier 1: Digi-Key; Supplier Part Number 1: MCP4151-503E/MF-ND; Supplier 2: Mouser; Supplier Part Number 2: 579-MCP4151-503E/MF; Mounting Technology: Surface Mount; ComponentLink1Description: Manufacturer URL; ComponentLink1URL: http://www.microchip.com/; ComponentLink2Description: Datasheet; ComponentLink2URL: http://ww1.microchip.com/downloads/en/DeviceDoc/22060b.pdf; ComponentLink3Description: Package Specification; ComponentLink3URL: http://www.microchip.com/stellent/groups/techpub_sg/documents/packagingspec/en012702.pdf
footprint DFN-MF8 (SON, 8-Leads, Body 3x3mm, Pitch 0.65mm, Microchip Recommended)
pins: 1 ~{CS} (in), 2 SCK (in), 3 SDI/SDO (io), 4 VSS (power), 5 P0A, 6 P0W, 7 P0B, 8 VDD (power), 9 EP

## MCP4151-503E/MS
designator U?
7/8-Bit Single/Dual SPI Digital POT with Volatile Memory, 8-Pin MSOP, Extended Temperature; Manufacturer: Microchip; PartNumber: MCP4151-503E/MS; DatasheetVersion: revB, Dec-2008; PackageVersion: revBB, Aug-2009; PackageReference: MSOP-MS8; PackageDescription: 8-Lead Plastic Micro Small Outline Package (MS) [MSOP]; Supplier 1: Digi-Key; Supplier Part Number 1: MCP4151-503E/MS-ND; Supplier 2: Mouser; Supplier Part Number 2: 579-MCP4151-503E/MS; Mounting Technology: Surface Mount; ComponentLink1Description: Manufacturer URL; ComponentLink1URL: http://www.microchip.com/; ComponentLink2Description: Datasheet; ComponentLink2URL: http://ww1.microchip.com/downloads/en/DeviceDoc/22060b.pdf; ComponentLink3Description: Package Specification; ComponentLink3URL: http://www.microchip.com/stellent/groups/techpub_sg/documents/packagingspec/en012702.pdf
footprint MSOP-MS8_N (TSOP, 8-Leads, Body 3x3mm, Pitch 0.65mm, IPC Medium Density)
footprint MSOP-MS8_L (TSOP, 8-Leads, Body 3x3mm, Pitch 0.65mm, IPC High Density)
footprint MSOP-MS8_M (TSOP, 8-Leads, Body 3x3mm, Pitch 0.65mm, IPC Low Density)
pins: 1 ~{CS} (in), 2 SCK (in), 3 SDI/SDO (io), 4 VSS (power), 5 P0A, 6 P0W, 7 P0B, 8 VDD (power)

## MCP4151-503E/P
designator U?
7/8-Bit Single/Dual SPI Digital POT with Volatile Memory, 8-Pin PDIP, Extended Temperature; Manufacturer: Microchip; PartNumber: MCP4151-503E/P; DatasheetVersion: revB, Dec-2008; PackageVersion: revBB, Aug-2009; PackageReference: PDIP300-P8; PackageDescription: 8-Lead Plastic Dual In-Line (P) - 300 mil Body [PDIP]; Supplier 1: Digi-Key; Supplier Part Number 1: MCP4151-503E/P-ND; Supplier 2: Farnell; Supplier Part Number 2: 1840819; Supplier 3: Newark; Supplier Part Number 3: 77M2694; Supplier 4: Mouser; Supplier Part Number 4: 579-MCP4151-503E/P; Mounting Technology: Through Hole; Code_JEDEC: MS-001; ComponentLink1Description: Manufacturer URL; ComponentLink1URL: http://www.microchip.com/; ComponentLink2Description: Datasheet; ComponentLink2URL: http://ww1.microchip.com/downloads/en/DeviceDoc/22060b.pdf; ComponentLink3Description: Package Specification; ComponentLink3URL: http://www.microchip.com/stellent/groups/techpub_sg/documents/packagingspec/en012702.pdf
footprint PDIP300-P8 (DIP, 8-Leads, Row Spacing 7.62mm, Pitch 2.54mm, Body 9.5x6.6mm)
pins: 1 ~{CS} (in), 2 SCK (in), 3 SDI/SDO (io), 4 VSS (power), 5 P0A, 6 P0W, 7 P0B, 8 VDD (power)

## MCP4151-503E/SN
designator U?
7/8-Bit Single/Dual SPI Digital POT with Volatile Memory, 8-Pin SOIC 150mil, Extended Temperature; Manufacturer: Microchip; PartNumber: MCP4151-503E/SN; DatasheetVersion: revB, Dec-2008; PackageVersion: revBB, Aug-2009; PackageReference: SOIC-SN8; PackageDescription: 8-Lead Plastic Small Outline (SN) - Narrow, 3.90mm Body [SOIC]; Supplier 1: Digi-Key; Supplier Part Number 1: MCP4151-503E/SN-ND; Supplier 2: Farnell; Supplier Part Number 2: 1840825; Supplier 3: Newark; Supplier Part Number 3: 77M2695; Supplier 4: Mouser; Supplier Part Number 4: 579-MCP4151-503E/SN; Mounting Technology: Surface Mount; Code_JEDEC: MS-012; Code_IPC: SOIC127P600-8; ComponentLink1Description: Manufacturer URL; ComponentLink1URL: http://www.microchip.com/; ComponentLink2Description: Datasheet; ComponentLink2URL: http://ww1.microchip.com/downloads/en/DeviceDoc/22060b.pdf; ComponentLink3Description: Package Specification; ComponentLink3URL: http://www.microchip.com/stellent/groups/techpub_sg/documents/packagingspec/en012702.pdf
footprint SOIC-SN8_N (SOIC, 8-Leads, Body 4.9x3.8mm, Pitch 1.27mm, IPC Medium Density)
footprint SOIC-SN8_L (SOIC, 8-Leads, Body 4.9x3.8mm, Pitch 1.27mm, IPC High Density)
footprint SOIC-SN8_M (SOIC, 8-Leads, Body 4.9x3.8mm, Pitch 1.27mm, IPC Low Density)
pins: 1 ~{CS} (in), 2 SCK (in), 3 SDI/SDO (io), 4 VSS (power), 5 P0A, 6 P0W, 7 P0B, 8 VDD (power)

## MCP4151T-103E/MF
designator U?
7/8-Bit Single/Dual SPI Digital POT with Volatile Memory, 8-Pin DFN, Extended Temperature, Tape and Reel; Manufacturer: Microchip; PartNumber: MCP4151T-103E/MF; DatasheetVersion: revB, Dec-2008; PackageVersion: revBB, Aug-2009; PackageReference: DFN-MF8; PackageDescription: 8-Lead Plastic Dual Flat, No Lead Package (MF) - 3x3x0.9mm Body [DFN]; Supplier 1: Digi-Key; Supplier Part Number 1: MCP4151T-103E/MF-ND; Supplier 2: Mouser; Supplier Part Number 2: 579-MCP4151T-103E/MF; Mounting Technology: Surface Mount; ComponentLink1Description: Manufacturer URL; ComponentLink1URL: http://www.microchip.com/; ComponentLink2Description: Datasheet; ComponentLink2URL: http://ww1.microchip.com/downloads/en/DeviceDoc/22060b.pdf; ComponentLink3Description: Package Specification; ComponentLink3URL: http://www.microchip.com/stellent/groups/techpub_sg/documents/packagingspec/en012702.pdf
footprint DFN-MF8 (SON, 8-Leads, Body 3x3mm, Pitch 0.65mm, Microchip Recommended)
pins: 1 ~{CS} (in), 2 SCK (in), 3 SDI/SDO (io), 4 VSS (power), 5 P0A, 6 P0W, 7 P0B, 8 VDD (power), 9 EP

## MCP4151T-103E/MS
designator U?
7/8-Bit Single/Dual SPI Digital POT with Volatile Memory, 8-Pin MSOP, Extended Temperature, Tape and Reel; Manufacturer: Microchip; PartNumber: MCP4151T-103E/MS; DatasheetVersion: revB, Dec-2008; PackageVersion: revBB, Aug-2009; PackageReference: MSOP-MS8; PackageDescription: 8-Lead Plastic Micro Small Outline Package (MS) [MSOP]; Supplier 1: Digi-Key; Supplier Part Number 1: MCP4151T-103E/MS-ND; Supplier 2: Mouser; Supplier Part Number 2: 579-MCP4151T-103E/MS; Mounting Technology: Surface Mount; ComponentLink1Description: Manufacturer URL; ComponentLink1URL: http://www.microchip.com/; ComponentLink2Description: Datasheet; ComponentLink2URL: http://ww1.microchip.com/downloads/en/DeviceDoc/22060b.pdf; ComponentLink3Description: Package Specification; ComponentLink3URL: http://www.microchip.com/stellent/groups/techpub_sg/documents/packagingspec/en012702.pdf
footprint MSOP-MS8_N (TSOP, 8-Leads, Body 3x3mm, Pitch 0.65mm, IPC Medium Density)
footprint MSOP-MS8_L (TSOP, 8-Leads, Body 3x3mm, Pitch 0.65mm, IPC High Density)
footprint MSOP-MS8_M (TSOP, 8-Leads, Body 3x3mm, Pitch 0.65mm, IPC Low Density)
pins: 1 ~{CS} (in), 2 SCK (in), 3 SDI/SDO (io), 4 VSS (power), 5 P0A, 6 P0W, 7 P0B, 8 VDD (power)

## MCP4151T-103E/SN
designator U?
7/8-Bit Single/Dual SPI Digital POT with Volatile Memory, 8-Pin SOIC 150mil, Extended Temperature, Tape and Reel; Manufacturer: Microchip; PartNumber: MCP4151T-103E/SN; DatasheetVersion: revB, Dec-2008; PackageVersion: revBB, Aug-2009; PackageReference: SOIC-SN8; PackageDescription: 8-Lead Plastic Small Outline (SN) - Narrow, 3.90mm Body [SOIC]; Supplier 1: Digi-Key; Supplier Part Number 1: MCP4151T-103E/SN-ND; Supplier 2: Mouser; Supplier Part Number 2: 579-MCP4151T-103E/SN; Mounting Technology: Surface Mount; Code_JEDEC: MS-012; Code_IPC: SOIC127P600-8; ComponentLink1Description: Manufacturer URL; ComponentLink1URL: http://www.microchip.com/; ComponentLink2Description: Datasheet; ComponentLink2URL: http://ww1.microchip.com/downloads/en/DeviceDoc/22060b.pdf; ComponentLink3Description: Package Specification; ComponentLink3URL: http://www.microchip.com/stellent/groups/techpub_sg/documents/packagingspec/en012702.pdf
footprint SOIC-SN8_N (SOIC, 8-Leads, Body 4.9x3.8mm, Pitch 1.27mm, IPC Medium Density)
footprint SOIC-SN8_L (SOIC, 8-Leads, Body 4.9x3.8mm, Pitch 1.27mm, IPC High Density)
footprint SOIC-SN8_M (SOIC, 8-Leads, Body 4.9x3.8mm, Pitch 1.27mm, IPC Low Density)
pins: 1 ~{CS} (in), 2 SCK (in), 3 SDI/SDO (io), 4 VSS (power), 5 P0A, 6 P0W, 7 P0B, 8 VDD (power)

## MCP4151T-104E/MF
designator U?
7/8-Bit Single/Dual SPI Digital POT with Volatile Memory, 8-Pin DFN, Extended Temperature, Tape and Reel; Manufacturer: Microchip; PartNumber: MCP4151T-104E/MF; DatasheetVersion: revB, Dec-2008; PackageVersion: revBB, Aug-2009; PackageReference: DFN-MF8; PackageDescription: 8-Lead Plastic Dual Flat, No Lead Package (MF) - 3x3x0.9mm Body [DFN]; Supplier 1: Digi-Key; Supplier Part Number 1: MCP4151T-104E/MF-ND; Supplier 2: Mouser; Supplier Part Number 2: 579-MCP4151T-104E/MF; Mounting Technology: Surface Mount; ComponentLink1Description: Manufacturer URL; ComponentLink1URL: http://www.microchip.com/; ComponentLink2Description: Datasheet; ComponentLink2URL: http://ww1.microchip.com/downloads/en/DeviceDoc/22060b.pdf; ComponentLink3Description: Package Specification; ComponentLink3URL: http://www.microchip.com/stellent/groups/techpub_sg/documents/packagingspec/en012702.pdf
footprint DFN-MF8 (SON, 8-Leads, Body 3x3mm, Pitch 0.65mm, Microchip Recommended)
pins: 1 ~{CS} (in), 2 SCK (in), 3 SDI/SDO (io), 4 VSS (power), 5 P0A, 6 P0W, 7 P0B, 8 VDD (power), 9 EP

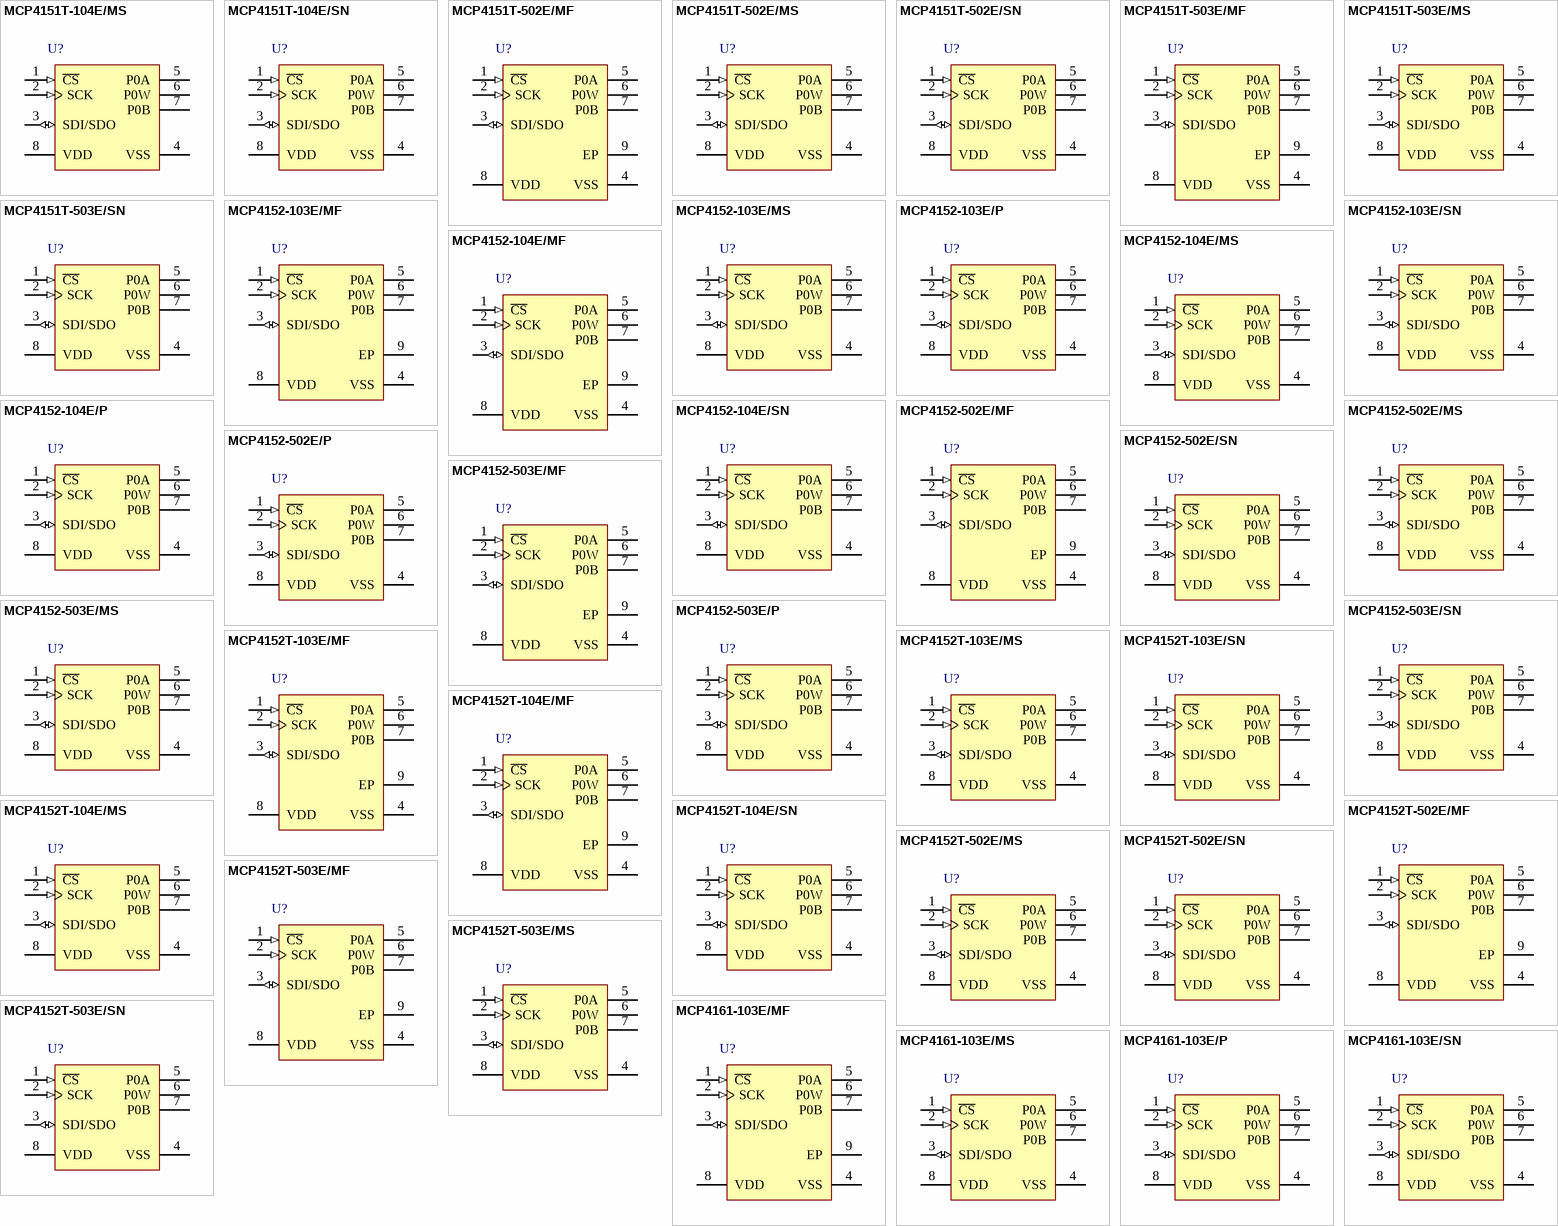
[diagram p13: symbols MCP4151T-104E/MS to MCP4161-103E/SN]

## MCP4151T-104E/MS
designator U?
7/8-Bit Single/Dual SPI Digital POT with Volatile Memory, 8-Pin MSOP, Extended Temperature, Tape and Reel; Manufacturer: Microchip; PartNumber: MCP4151T-104E/MS; DatasheetVersion: revB, Dec-2008; PackageVersion: revBB, Aug-2009; PackageReference: MSOP-MS8; PackageDescription: 8-Lead Plastic Micro Small Outline Package (MS) [MSOP]; Supplier 1: Digi-Key; Supplier Part Number 1: MCP4151T-104E/MS-ND; Supplier 2: Mouser; Supplier Part Number 2: 579-MCP4151T-104E/MS; Mounting Technology: Surface Mount; ComponentLink1Description: Manufacturer URL; ComponentLink1URL: http://www.microchip.com/; ComponentLink2Description: Datasheet; ComponentLink2URL: http://ww1.microchip.com/downloads/en/DeviceDoc/22060b.pdf; ComponentLink3Description: Package Specification; ComponentLink3URL: http://www.microchip.com/stellent/groups/techpub_sg/documents/packagingspec/en012702.pdf
footprint MSOP-MS8_N (TSOP, 8-Leads, Body 3x3mm, Pitch 0.65mm, IPC Medium Density)
footprint MSOP-MS8_L (TSOP, 8-Leads, Body 3x3mm, Pitch 0.65mm, IPC High Density)
footprint MSOP-MS8_M (TSOP, 8-Leads, Body 3x3mm, Pitch 0.65mm, IPC Low Density)
pins: 1 ~{CS} (in), 2 SCK (in), 3 SDI/SDO (io), 4 VSS (power), 5 P0A, 6 P0W, 7 P0B, 8 VDD (power)

## MCP4151T-104E/SN
designator U?
7/8-Bit Single/Dual SPI Digital POT with Volatile Memory, 8-Pin SOIC 150mil, Extended Temperature, Tape and Reel; Manufacturer: Microchip; PartNumber: MCP4151T-104E/SN; DatasheetVersion: revB, Dec-2008; PackageVersion: revBB, Aug-2009; PackageReference: SOIC-SN8; PackageDescription: 8-Lead Plastic Small Outline (SN) - Narrow, 3.90mm Body [SOIC]; Supplier 1: Digi-Key; Supplier Part Number 1: MCP4151T-104E/SN-ND; Supplier 2: Mouser; Supplier Part Number 2: 579-MCP4151T-104E/SN; Mounting Technology: Surface Mount; Code_JEDEC: MS-012; Code_IPC: SOIC127P600-8; ComponentLink1Description: Manufacturer URL; ComponentLink1URL: http://www.microchip.com/; ComponentLink2Description: Datasheet; ComponentLink2URL: http://ww1.microchip.com/downloads/en/DeviceDoc/22060b.pdf; ComponentLink3Description: Package Specification; ComponentLink3URL: http://www.microchip.com/stellent/groups/techpub_sg/documents/packagingspec/en012702.pdf
footprint SOIC-SN8_N (SOIC, 8-Leads, Body 4.9x3.8mm, Pitch 1.27mm, IPC Medium Density)
footprint SOIC-SN8_L (SOIC, 8-Leads, Body 4.9x3.8mm, Pitch 1.27mm, IPC High Density)
footprint SOIC-SN8_M (SOIC, 8-Leads, Body 4.9x3.8mm, Pitch 1.27mm, IPC Low Density)
pins: 1 ~{CS} (in), 2 SCK (in), 3 SDI/SDO (io), 4 VSS (power), 5 P0A, 6 P0W, 7 P0B, 8 VDD (power)

## MCP4151T-502E/MF
designator U?
7/8-Bit Single/Dual SPI Digital POT with Volatile Memory, 8-Pin DFN, Extended Temperature, Tape and Reel; Manufacturer: Microchip; PartNumber: MCP4151T-502E/MF; DatasheetVersion: revB, Dec-2008; PackageVersion: revBB, Aug-2009; PackageReference: DFN-MF8; PackageDescription: 8-Lead Plastic Dual Flat, No Lead Package (MF) - 3x3x0.9mm Body [DFN]; Supplier 1: Digi-Key; Supplier Part Number 1: MCP4151T-502E/MF-ND; Supplier 2: Mouser; Supplier Part Number 2: 579-MCP4151T-502E/MF; Mounting Technology: Surface Mount; ComponentLink1Description: Manufacturer URL; ComponentLink1URL: http://www.microchip.com/; ComponentLink2Description: Datasheet; ComponentLink2URL: http://ww1.microchip.com/downloads/en/DeviceDoc/22060b.pdf; ComponentLink3Description: Package Specification; ComponentLink3URL: http://www.microchip.com/stellent/groups/techpub_sg/documents/packagingspec/en012702.pdf
footprint DFN-MF8 (SON, 8-Leads, Body 3x3mm, Pitch 0.65mm, Microchip Recommended)
pins: 1 ~{CS} (in), 2 SCK (in), 3 SDI/SDO (io), 4 VSS (power), 5 P0A, 6 P0W, 7 P0B, 8 VDD (power), 9 EP

## MCP4151T-502E/MS
designator U?
7/8-Bit Single/Dual SPI Digital POT with Volatile Memory, 8-Pin MSOP, Extended Temperature, Tape and Reel; Manufacturer: Microchip; PartNumber: MCP4151T-502E/MS; DatasheetVersion: revB, Dec-2008; PackageVersion: revBB, Aug-2009; PackageReference: MSOP-MS8; PackageDescription: 8-Lead Plastic Micro Small Outline Package (MS) [MSOP]; Supplier 1: Digi-Key; Supplier Part Number 1: MCP4151T-502E/MS-ND; Supplier 2: Mouser; Supplier Part Number 2: 579-MCP4151T-502E/MS; Mounting Technology: Surface Mount; ComponentLink1Description: Manufacturer URL; ComponentLink1URL: http://www.microchip.com/; ComponentLink2Description: Datasheet; ComponentLink2URL: http://ww1.microchip.com/downloads/en/DeviceDoc/22060b.pdf; ComponentLink3Description: Package Specification; ComponentLink3URL: http://www.microchip.com/stellent/groups/techpub_sg/documents/packagingspec/en012702.pdf
footprint MSOP-MS8_N (TSOP, 8-Leads, Body 3x3mm, Pitch 0.65mm, IPC Medium Density)
footprint MSOP-MS8_L (TSOP, 8-Leads, Body 3x3mm, Pitch 0.65mm, IPC High Density)
footprint MSOP-MS8_M (TSOP, 8-Leads, Body 3x3mm, Pitch 0.65mm, IPC Low Density)
pins: 1 ~{CS} (in), 2 SCK (in), 3 SDI/SDO (io), 4 VSS (power), 5 P0A, 6 P0W, 7 P0B, 8 VDD (power)

## MCP4151T-502E/SN
designator U?
7/8-Bit Single/Dual SPI Digital POT with Volatile Memory, 8-Pin SOIC 150mil, Extended Temperature, Tape and Reel; Manufacturer: Microchip; PartNumber: MCP4151T-502E/SN; DatasheetVersion: revB, Dec-2008; PackageVersion: revBB, Aug-2009; PackageReference: SOIC-SN8; PackageDescription: 8-Lead Plastic Small Outline (SN) - Narrow, 3.90mm Body [SOIC]; Supplier 1: Digi-Key; Supplier Part Number 1: MCP4151T-502E/SN-ND; Supplier 2: Mouser; Supplier Part Number 2: 579-MCP4151T-502E/SN; Mounting Technology: Surface Mount; Code_JEDEC: MS-012; Code_IPC: SOIC127P600-8; ComponentLink1Description: Manufacturer URL; ComponentLink1URL: http://www.microchip.com/; ComponentLink2Description: Datasheet; ComponentLink2URL: http://ww1.microchip.com/downloads/en/DeviceDoc/22060b.pdf; ComponentLink3Description: Package Specification; ComponentLink3URL: http://www.microchip.com/stellent/groups/techpub_sg/documents/packagingspec/en012702.pdf
footprint SOIC-SN8_N (SOIC, 8-Leads, Body 4.9x3.8mm, Pitch 1.27mm, IPC Medium Density)
footprint SOIC-SN8_L (SOIC, 8-Leads, Body 4.9x3.8mm, Pitch 1.27mm, IPC High Density)
footprint SOIC-SN8_M (SOIC, 8-Leads, Body 4.9x3.8mm, Pitch 1.27mm, IPC Low Density)
pins: 1 ~{CS} (in), 2 SCK (in), 3 SDI/SDO (io), 4 VSS (power), 5 P0A, 6 P0W, 7 P0B, 8 VDD (power)